# Altium schematic symbol library Single 2input NOR.SchLib: 1 symbol
Pins are listed as number, name and electrical type; pins without a type are passive.

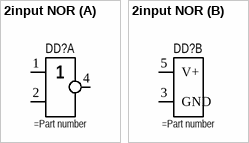
[diagram p0: symbol 2input NOR]

## 2input NOR
designator DD?
Single 2-Input Positive-NOR Gate
part A pins: 1, 2, 4
part B pins: 3 GND, 5 V+